# Altium footprint library M80-5000000M5-02-PM3-00-000.PcbLib: 1 footprints
Each footprint in its own frame and in the unit in brackets; x right, y up, seen from the top. Pads: shape width x height; smd on the part's side, far side on the other; paste and mask are expansions set on the pad; w line width, h text height; cw(c..) or ccw(c..) is an arc to the next point about the centre after c.
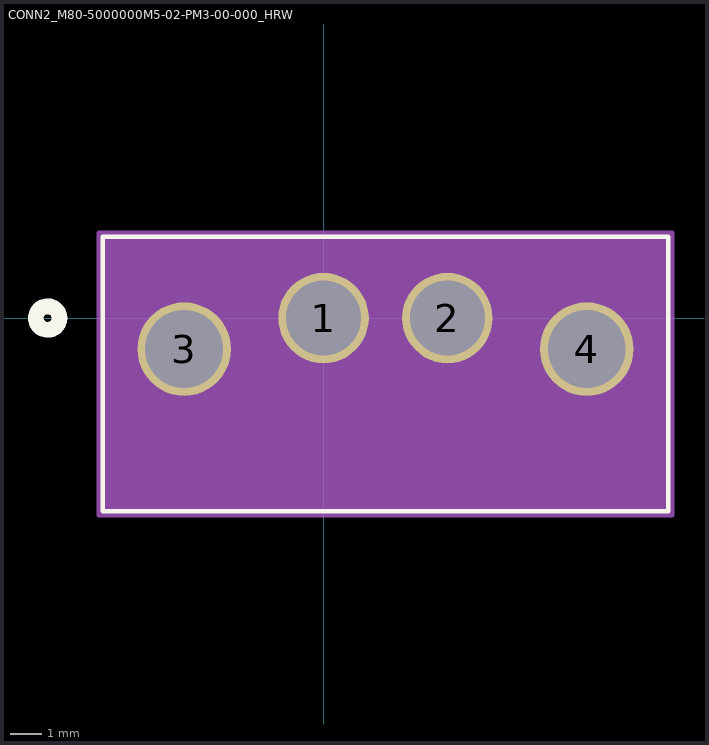
[diagram p0: the footprint, top view; thin cyan lines are the x and y axes]

## CONN2_M80-5000000M5-02-PM3-00-000_HRW [mil]
pads (4):
  round 115 / inner round 60 / far side round 115 hole 95 paste-57.5 mask+0: 1(0,0) 2(157.48,0)
  round 119 / inner round 60 / far side round 119 hole 99 paste-59.5 mask-59.5: 3(-177.17,-39.37) 4(334.65,-39.37)
Top Overlay:
  circle w20: c-350.76,0 r15
  lines w6: -280.76,-245.57 438.24,-245.57 438.24,103.43 -280.76,103.43 -280.76,-245.57
Bottom Overlay:
  circle w20: c-350.76,0 r15
Mechanical 13:
  circle w20: c0,75 r15
  lines w1: -275.76,-240.57 433.24,-240.57 433.24,98.43 -275.76,98.43 -275.76,-240.57
Mechanical 15:
  region: 443.24,108.43 -285.76,108.43 -285.76,-250.57 443.24,-250.57
  lines w6: -285.76,-250.57 -285.76,108.43 443.24,108.43 443.24,-250.57 -285.76,-250.57